# EAGLE library part ILI_LCD (library RPI-Zero_extended)
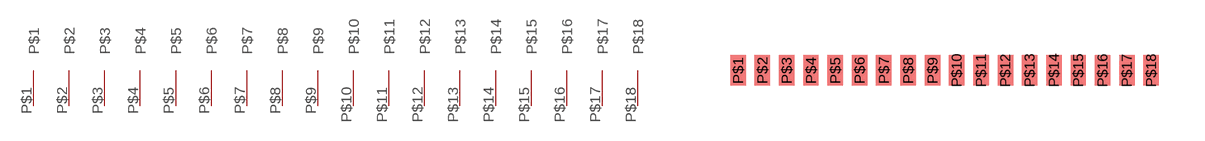
[diagram p2: symbol with the pads of ILI_LCD; footprint ILI_LCD]

Designator prefix -

## ILI_LCD  [ILI_LCD]
P$1  P$1
P$2  P$2
P$3  P$3
P$4  P$4
P$5  P$5
P$6  P$6
P$7  P$7
P$8  P$8
P$9  P$9
P$10  P$10
P$11  P$11
P$12  P$12
P$13  P$13
P$14  P$14
P$15  P$15
P$16  P$16
P$17  P$17
P$18  P$18

## Footprint ILI_LCD (pad centres in mm)
smd 0.508 x 1.016: P$1 0,0; P$2 0.8,0; P$3 1.6,0; P$4 2.4,0; P$5 3.2,0; P$6 4,0; P$7 4.8,0; P$8 5.6,0; P$9 6.4,0; P$10 7.2,0; P$11 8,0; P$12 8.8,0; P$13 9.6,0; P$14 10.4,0; P$15 11.2,0; P$16 12,0; P$17 12.8,0; P$18 13.6,0